# EAGLE library part MPU9250_MODULE (library Strawberry-Linux_MPUP250_Module)
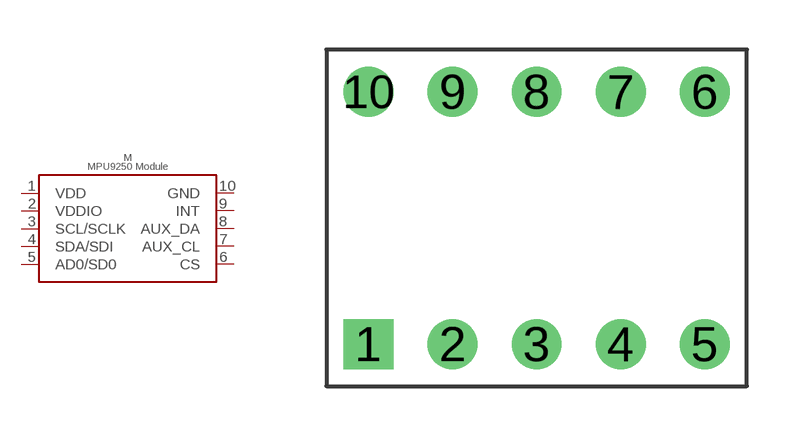
[diagram p0: symbol with the pads of MPU9250_MODULE; footprint MPU9250_MODULE]

Designator prefix M

## MPU9250_MODULE  [MPU9250_MODULE]
1  VDD
2  VDDIO
3  SCL/SCLK
4  SDA/SDI
5  AD0/SD0
6  CS
7  AUX_CL
8  AUX_DA
9  INT
10  GND

## Footprint MPU9250_MODULE (pad centres in mm)
drill 1 square: 1 -5.08,-3.81
drill 1: 2 -2.54,-3.81; 3 0,-3.81; 4 2.54,-3.81; 5 5.08,-3.81; 6 5.08,3.81; 7 2.54,3.81; 8 0,3.81; 9 -2.54,3.81; 10 -5.08,3.81